# EAGLE library part TEXAS_INSTRUMENTS-D_FLIP_FLOP-SN74LVC2G74-Q1_DCU_8 (library Module_Gates)
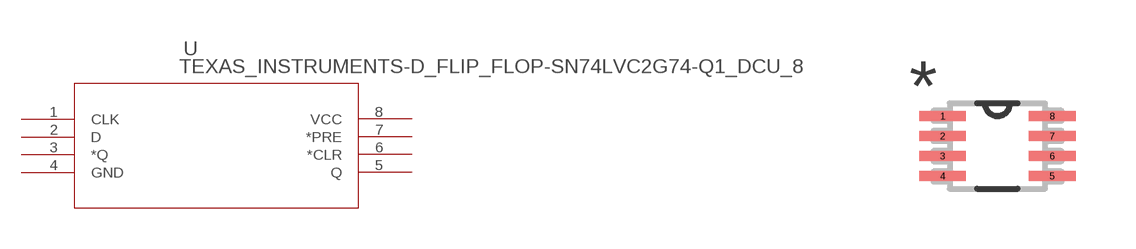
[diagram p4: symbol with the pads of TEXAS_INSTRUMENTS-D_FLIP_FLOP-SN74LVC2G74-Q1_DCU_8; footprint TEXAS_INSTRUMENTS-D_FLIP_FLOP-SN74LVC2G74-Q1_DCU_8]

Designator prefix U

## TEXAS_INSTRUMENTS-D_FLIP_FLOP-SN74LVC2G74-Q1_DCU_8 (DATASHEETURL: httpwww.ti.comlitgpnSN74LVC2G74Q1; FAMILY_NAME: LL FLIPFLOP; GENERIC_PART_NUMBER: SN74LVC2G74Q1; INDUSTRY_STD_PKG_TYPE: US8; MANUFACTURER: Texas Instruments; MANUFACTURER_PART_NUMBER: sn74lvc2g74q1_dcu_8; PACKAGE_DESIGNATOR: DCU; PIN_COUNT: 8; VENDOR: Texas Instruments)  [TEXAS_INSTRUMENTS-D_FLIP_FLOP-SN74LVC2G74-Q1_DCU_8]
1  CLK  in
2  D  in
3  *Q  out
4  GND  pwr
5  Q  out
6  *CLR  in
7  *PRE  in
8  VCC  pwr

## Footprint TEXAS_INSTRUMENTS-D_FLIP_FLOP-SN74LVC2G74-Q1_DCU_8 (pad centres in mm)
smd 1.168 x 0.254: 1 -1.372,0.75; 2 -1.372,0.25; 3 -1.372,-0.25; 4 -1.372,-0.75; 5 1.372,-0.75; 6 1.372,-0.25; 7 1.372,0.25; 8 1.372,0.75